# Altium footprint library Board.PcbLib: 4 footprints
Each footprint in its own frame and in the unit in brackets; x right, y up, seen from the top. Pads: shape width x height; smd on the part's side, far side on the other; paste and mask are expansions set on the pad; w line width, h text height; cw(c..) or ccw(c..) is an arc to the next point about the centre after c.
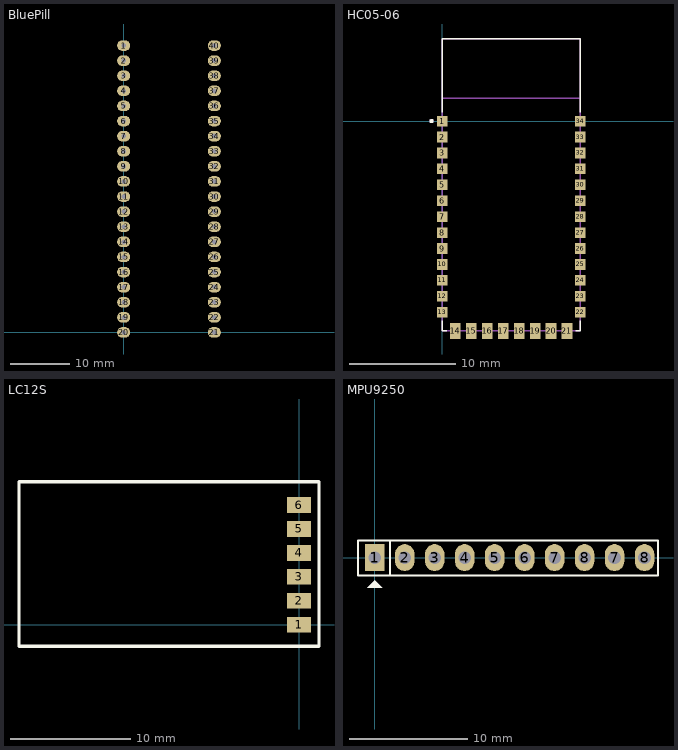
[diagram p0: the footprints below, top view; thin cyan lines are the x and y axes]

## BluePill [mil]
pads (40):
  oval 86.61x70 hole 32: 1(0,1900) 2(0,1800) 3(0,1700) 4(0,1600) 5(0,1500) 6(0,1400) 7(0,1300) 8(0,1200) 9(0,1100) 10(0,1000) 11(0,900) 12(0,800) 13(0,700) 14(0,600) 15(0,500) 16(0,400) 17(0,300) 18(0,200) 19(0,100) 20(0,0) 21(600,0) 22(600,100) 23(600,200) 24(600,300) 25(600,400) 26(600,500) 27(600,600) 28(600,700) 29(600,800) 30(600,900) 31(600,1000) 32(600,1100) 33(600,1200) 34(600,1300) 35(600,1400) 36(600,1500) 37(600,1600) 38(600,1700) 39(600,1800) 40(600,1900)
3D body "BluePill2_1567071806.STEP": height 571.26, standoff -115, extent -140.83,-112.53 745,2195.99

## HC05-06 [mm]
pads (34):
  rect 1x1 smd: 1(-0.023,0.023) 2(-0.023,-1.477) 3(-0.023,-2.977) 4(-0.023,-4.477) 5(-0.023,-5.977) 6(-0.023,-7.477) 7(-0.023,-8.977) 8(-0.023,-10.477) 9(-0.023,-11.977) 10(-0.023,-13.477) 11(-0.023,-14.977) 12(-0.023,-16.477) 13(-0.023,-17.977) 22(12.977,-17.977) 23(12.977,-16.477) 24(12.977,-14.977) 25(12.977,-13.477) 26(12.977,-11.977) 27(12.977,-10.477) 28(12.977,-8.977) 29(12.977,-7.477) 30(12.977,-5.977) 31(12.977,-4.477) 32(12.977,-2.977) 33(12.977,-1.477) 34(12.977,0.023)
  rect 1x1.524 smd: 14(1.227,-19.727) 15(2.727,-19.727) 16(4.227,-19.727) 17(5.727,-19.727) 18(7.227,-19.727) 19(8.727,-19.727) 20(10.227,-19.727) 21(11.727,-19.727)
Top Overlay:
  circle w0.2: c-1.023,0.023 r0.1
  lines w0.127: -0.023,-18.791 -0.023,-19.727 0.413,-19.727 ; -0.023,0.837 -0.023,7.747 12.977,7.747 12.977,0.837 ; 12.541,-19.727 12.977,-19.727 12.977,-18.791
Bottom Overlay:
  lines w0.254: 0,2.159 12.954,2.159 12.954,7.747 0,7.747 0,2.159
Mechanical 4:
  circle w0.2: c-1.023,0.023 r0.1
  circle w0.2: c-1.023,0.023 r0.1
  lines w0.127: -0.023,6.973 -0.023,2.173 ; 12.977,6.973 12.977,2.173 ; -0.023,-19.727 -0.023,2.173 ; -0.023,-19.727 12.977,-19.727 ; -0.023,-19.727 -0.023,2.173 ; -0.023,-19.727 12.977,-19.727 ; -0.023,2.173 12.977,2.173 ; -0.023,2.173 -0.023,7.747 12.977,7.747 12.977,2.173 ; -0.023,2.173 12.977,2.173 ; 12.977,-19.727 12.977,2.173 ; 12.977,-19.727 12.977,2.173
3D body "HC05-06.STEP": height 4.3, standoff 0, extent -0.023,-19.304 12.977,7.696

## LC12S [mm]
pads (6):
  rect 2x1.3 smd: 1(0,0) 2(0,2) 3(0,4) 4(0,6) 5(0,8) 6(0,10)
Top Overlay:
  lines w0.254: -23.368,-1.778 1.651,-1.778 1.651,11.938 -23.368,11.938 -23.368,-1.778
Bottom Overlay:
  lines w0.254: -23.368,-1.778 -23.368,11.938 -16.129,11.938 -16.129,-1.778 -23.368,-1.778
3D body "LC12S.STEP": height 2, standoff 0, extent -23.3,-1.77 0,11.93

## MPU9250 [mil] "JP8"
height 200
pads (10):
  rect 65x90 hole 42: 1(0,0)
  oval 65x90 hole 42: 2(100,0) 3(200,0) 4(300,0) 5(400,0) 6(500,0) 7(600,0) 7(800,0) 8(700,0) 8(900,0)
Top Overlay:
  region: 0,-75 -25,-100 25,-100
  lines w7: 51,-60 51,56 ; -56,-60 -56,57 945,57 945,-60 -56,-60
3D body "MPU-9250.stp": height 266.97, standoff -235.99, extent -50,-60.55 950,530